# Altium footprint library TS300.PcbLib: 3 footprints
Each footprint in its own frame and in the unit in brackets; x right, y up, seen from the top. Pads: shape width x height; smd on the part's side, far side on the other; paste and mask are expansions set on the pad; w line width, h text height; cw(c..) or ccw(c..) is an arc to the next point about the centre after c.
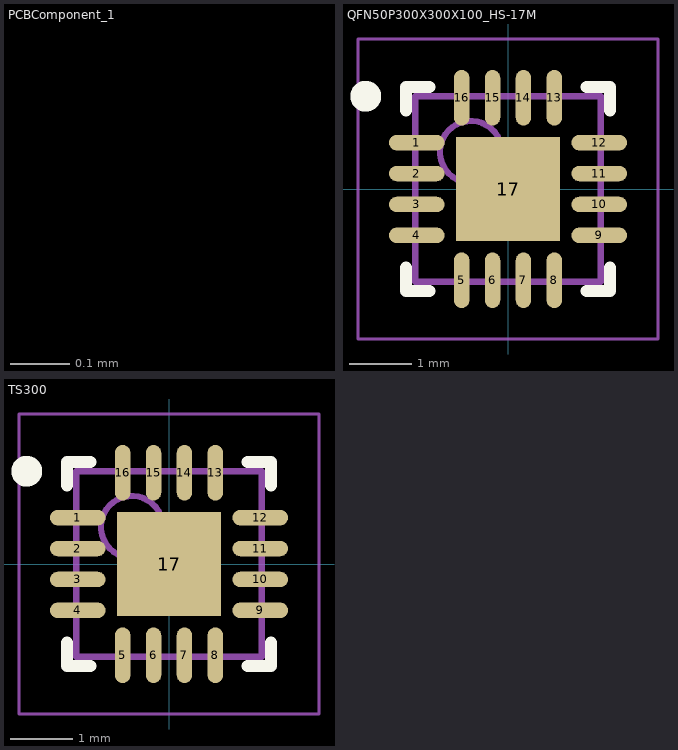
[diagram p0: the footprints below, top view; thin cyan lines are the x and y axes]

## PCBComponent_1 [mm]
Mechanical 1:
  pour cut-out: -1.651,1.397

## QFN50P300X300X100_HS-17M [mm] "QFN, 16-Leads, Body 3,00x3,00mm, Pitch 0,50mm, Thermal Pad 1,68x1,68mm, IPC Low Density"
height 1
pads (17):
  oval 0.9x0.25 smd: 1(-1.475,0.75) 2(-1.475,0.25) 3(-1.475,-0.25) 4(-1.475,-0.75) 9(1.475,-0.75) 10(1.475,-0.25) 11(1.475,0.25) 12(1.475,0.75)
  oval 0.25x0.9 smd: 5(-0.75,-1.475) 6(-0.25,-1.475) 7(0.25,-1.475) 8(0.75,-1.475) 13(0.75,1.475) 14(0.25,1.475) 15(-0.25,1.475) 16(-0.75,1.475)
  rect 1.68x1.68 smd: 17(0,0)
Top Overlay:
  circle w0.25: c-2.3,1.5 r0.125
  lines w0.2: -1.65,-1.275 -1.65,-1.65 -1.275,-1.65 ; -1.65,1.275 -1.65,1.65 -1.275,1.65 ; 1.275,-1.65 1.65,-1.65 1.65,-1.275 ; 1.275,1.65 1.65,1.65 1.65,1.275
Mechanical 13:
  circle w0.1: c-0.6,0.6 r0.5
  lines w0.1: -1.5,-1.5 1.5,-1.5 1.5,1.5 -1.5,1.5 -1.5,-1.5
Mechanical 15:
  lines w0.05: -2.425,-2.425 2.425,-2.425 2.425,2.425 -2.425,2.425 -2.425,-2.425
  lines w0.1: -0.5,0 0.5,0 ; 0,-0.5 0,0.5
3D body: height 1, standoff 0.05, extent -1.5,-1.5 1.5,1.5

## TS300 [mm] "QFN, 16-Leads, Body 3,00x3,00mm, Pitch 0,50mm, Thermal Pad 1,68x1,68mm, IPC Low Density"
height 1
pads (17):
  oval 0.9x0.25 smd: 1(-1.475,0.75) 2(-1.475,0.25) 3(-1.475,-0.25) 4(-1.475,-0.75) 9(1.475,-0.75) 10(1.475,-0.25) 11(1.475,0.25) 12(1.475,0.75)
  oval 0.25x0.9 smd: 5(-0.75,-1.475) 6(-0.25,-1.475) 7(0.25,-1.475) 8(0.75,-1.475) 13(0.75,1.475) 14(0.25,1.475) 15(-0.25,1.475) 16(-0.75,1.475)
  rect 1.68x1.68 smd: 17(0,0)
Top Overlay:
  circle w0.25: c-2.3,1.5 r0.125
  lines w0.2: -1.65,-1.275 -1.65,-1.65 -1.275,-1.65 ; -1.65,1.275 -1.65,1.65 -1.275,1.65 ; 1.275,-1.65 1.65,-1.65 1.65,-1.275 ; 1.275,1.65 1.65,1.65 1.65,1.275
Mechanical 13:
  circle w0.1: c-0.6,0.6 r0.5
  lines w0.1: -1.5,-1.5 -1.5,1.5 1.5,1.5 1.5,-1.5 -1.5,-1.5
Mechanical 15:
  lines w0.05: -2.425,-2.425 -2.425,2.425 2.425,2.425 2.425,-2.425 -2.425,-2.425
  lines w0.1: -0.5,0 0.5,0 ; 0,-0.5 0,0.5
3D body: height 1, standoff 0.05, extent -1.5,-1.5 1.5,1.5